# Altium footprint library PCB - CONNECTOR - NET TIE 1 TO 1 100U.PCBLIB: 2 footprints
Each footprint in its own frame and in the unit in brackets; x right, y up, seen from the top. Pads: shape width x height; smd on the part's side, far side on the other; paste and mask are expansions set on the pad; w line width, h text height; cw(c..) or ccw(c..) is an arc to the next point about the centre after c.
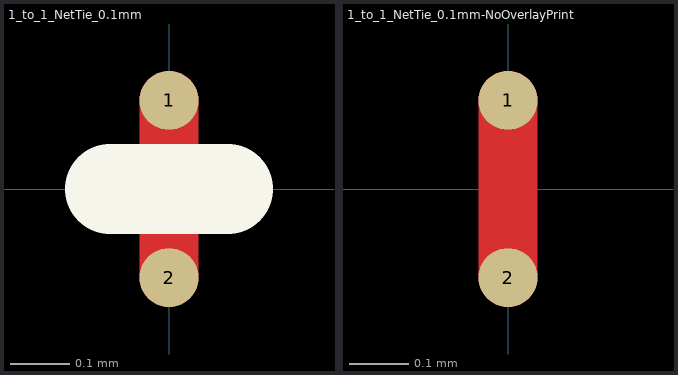
[diagram p0: the footprints below, top view; thin cyan lines are the x and y axes]

## 1_to_1_NetTie_0.1mm [mm] "Net Tie with 0.1mm pad width"
pads (2):
  round 0.1 smd paste-2539.97 mask+0.102: 1(0,0.15) 2(0,-0.15)
Top Layer:
  lines w0.1: 0,-0.15 0,0.15
Top Overlay:
  lines w0.152: -0.1,0 0.1,0

## 1_to_1_NetTie_0.1mm-NoOverlayPrint [mm] "Net Tie with 0.1mm pad width"
pads (2):
  round 0.1 smd paste-2539.97 mask+0.102: 1(0,0.15) 2(0,-0.15)
Top Layer:
  lines w0.1: 0,-0.15 0,0.15